# Altium footprint library IS-GPX-1.PcbLib: 1 footprints
Each footprint in its own frame and in the unit in brackets; x right, y up, seen from the top. Pads: shape width x height; smd on the part's side, far side on the other; paste and mask are expansions set on the pad; w line width, h text height; cw(c..) or ccw(c..) is an arc to the next point about the centre after c.
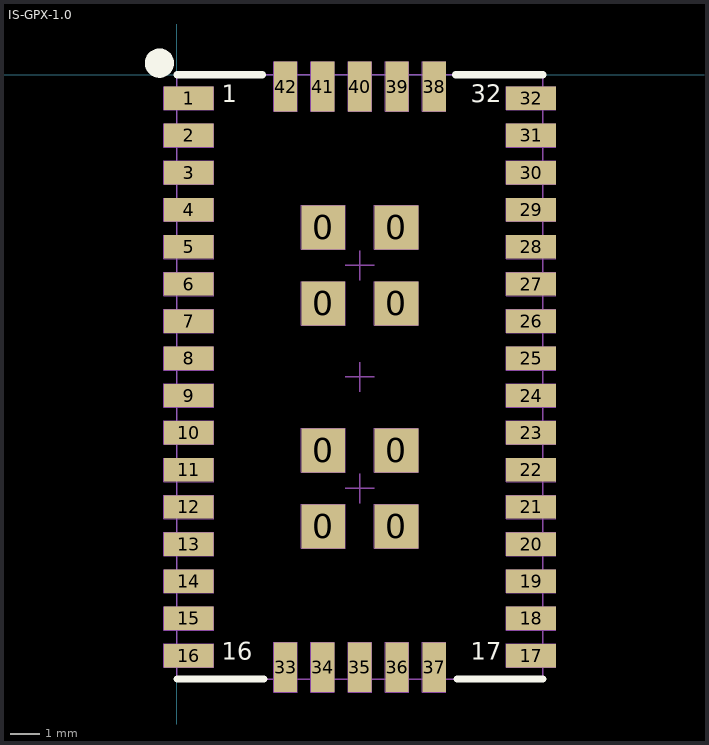
[diagram p0: the footprint, top view; thin cyan lines are the x and y axes]

## IS-GPX-1.0 [mm] "Inerial Sense GPX-1.0, 42pins 1.27mm pitch"
height 2.86
pads (50):
  rect 1.5x1.5 smd: 0(5,-15.435) 0(5,-12.835) 0(5,-7.815) 0(5,-5.215) 0(7.5,-15.435) 0(7.5,-12.835) 0(7.5,-7.815) 0(7.5,-5.215)
  rect 1.7x0.8 smd: 1(0.4,-0.8) 2(0.4,-2.07) 3(0.4,-3.34) 4(0.4,-4.61) 5(0.4,-5.88) 6(0.4,-7.15) 7(0.4,-8.42) 8(0.4,-9.69) 9(0.4,-10.96) 10(0.4,-12.23) 11(0.4,-13.5) 12(0.4,-14.77) 13(0.4,-16.04) 14(0.4,-17.31) 15(0.4,-18.58) 16(0.4,-19.85) 17(12.1,-19.85) 18(12.1,-18.58) 19(12.1,-17.31) 20(12.1,-16.04) 21(12.1,-14.77) 22(12.1,-13.5) 23(12.1,-12.23) 24(12.1,-10.96) 25(12.1,-9.69) 26(12.1,-8.42) 27(12.1,-7.15) 28(12.1,-5.88) 29(12.1,-4.61) 30(12.1,-3.34) 31(12.1,-2.07) 32(12.1,-0.8)
  rect 0.8x1.7 smd: 33(3.71,-20.25) 34(4.98,-20.25) 35(6.25,-20.25) 36(7.52,-20.25) 37(8.79,-20.25) 38(8.79,-0.4) 39(7.52,-0.4) 40(6.25,-0.4) 41(4.98,-0.4) 42(3.71,-0.4)
Top Overlay:
  circle w0.5: c-0.6,0.4 r0.25
  lines w0.254: 0,-20.65 2.975,-20.65 ; 0,0 2.921,0 ; 9.525,0 12.5,0 ; 9.579,-20.65 12.5,-20.65
  text "32" at 10.033,-1.143 h1.02
  text "17" at 10.033,-20.193 h1.02
  text "16" at 1.524,-20.193 h1.02
  text "1" at 1.524,-1.143 h1.02
Mechanical 13:
  lines w0.05: 5.75,-10.325 6.75,-10.325 ; 5.75,-6.515 6.75,-6.515 ; 6.25,-10.825 6.25,-9.825 ; 6.25,-7.015 6.25,-6.015 ; 0,-20.65 12.5,-20.65 ; 0,-20.65 12.5,-20.65 ; 0,-20.65 0,0 12.5,0 12.5,-20.65 ; 5.75,-14.135 6.75,-14.135 5.75,-14.135 ; 6.25,-14.635 6.25,-13.635 6.25,-14.635
Mechanical 16:
  drawing of 200 lines, arcs and shapes, not listed
3D body "GPX-r1.0.3.step": height 2.88, standoff 0.01, extent 0,-20.65 12.5,0